# Altium schematic symbol library SJ-3523-SMT-TR.SchLib: 1 symbol
Pins are listed as number, name and electrical type; pins without a type are passive.

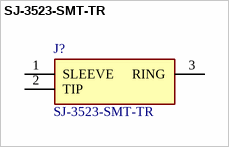
[diagram p0: symbol SJ-3523-SMT-TR]

## SJ-3523-SMT-TR
designator J?
3.5 mm, Stereo, Right Angle, Surface Mount (SMT), 3 Conductors, 0 Internal Switches, Audio Jack Connector; Manufacturer_Name: Same Sky; Geometry.Height: 5.2mm; Mouser Part Number: 490-SJ-3523-SMT-TR; Mouser Price/Stock: https://www.mouser.co.uk/ProductDetail/CUI-Devices/SJ-3523-SMT-TR?qs=WyjlAZoYn51zOHzJ3r4ZRA%3D%3D; Manufacturer_Part_Number: SJ-3523-SMT-TR; Datasheet Link: https://www.sameskydevices.com/product/resource/supplyframepdf/sj-352x-smt.pdf
footprint SJ3523SMTTR
pins: 1 SLEEVE, 2 TIP, 3 RING